# Altium schematic symbol library PAD.Schlib: 1 symbol
Pins are listed as number, name and electrical type; pins without a type are passive.

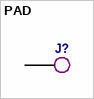
[diagram p0: symbol PAD]

## PAD
designator J?, comment Pad  (value not drawn)  (no BOM)
PCB Pad
pins: 1
3 alternate drawings of the same symbol